# Altium integrated library relay.IntLib: 425 symbols (part 3 of 4)
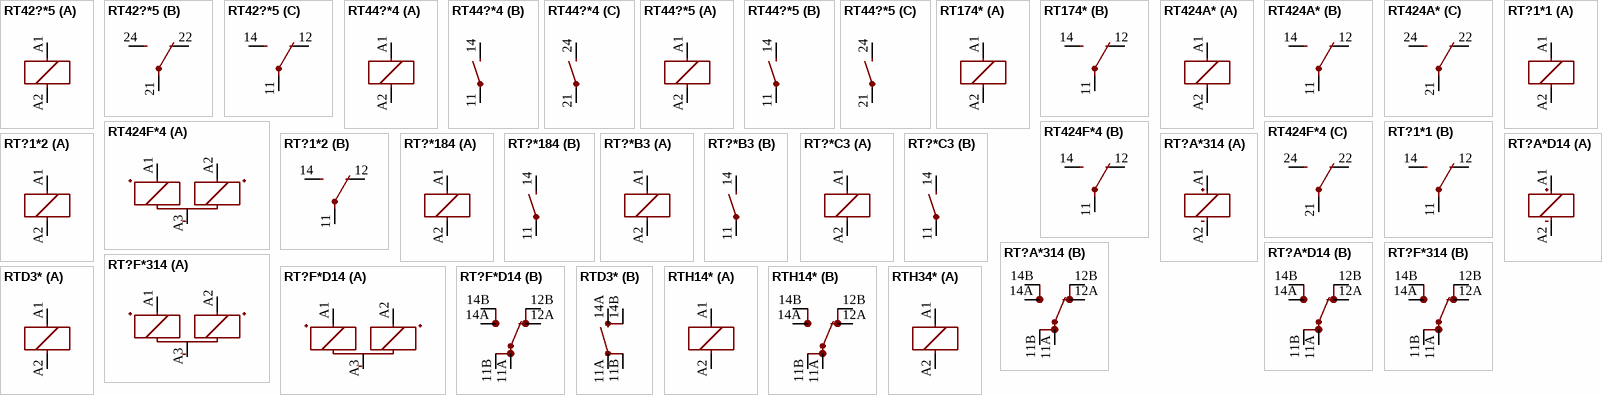
[diagram p32: symbols RT42?*5 to RTH34*]

## RT?1*2
designator K?, comment Power PCB Relayl SCHRACK   1 pole 12 / 16 A, DC- or AC-coi Source: http://www.schrack.com/.. 5819.pdf  (value not drawn)
MPN: RT214006; MPN: RT214012; MPN: RT214024; MPN: RT214048; MPN: RT214110; MPN: RT214524; MPN: RT214615; MPN: RT214730; MF: TYCO ELECTRONICS; OC_FARNELL: unknown; OC_NEWARK: unknown; OC_NEWARK: 08H3734; OC_NEWARK: 48M7937; OC_NEWARK: 08H3735; OC_NEWARK: 16R6362; OC_NEWARK: 16R6363; OC_NEWARK: 50H8104; OC_NEWARK: 93B6578; OC_NEWARK: 08H3736
footprint RT-C/O12A5
part A pins: A1 1, A2 2
part B pins: 11 P, 12 O, 14 S

## RT?*184
designator K?, comment Power PCB Relay SCHRACK   1 pole 12 / 16 A, DC- or AC-coil Source: http://www.schrack.com/.. 5819.pdf  (value not drawn)
MPN: RT184005; MPN: RT184012; MPN: RT184024; MF: TYCO ELECTRONICS; OC_FARNELL: unknown; OC_NEWARK: 08H3730; OC_NEWARK: unknown; OC_NEWARK: 08H3731; OC_NEWARK: 08H3733
footprint RT-N/O12A3.5
part A pins: A1 1, A2 2
part B pins: 11 P, 14 S

## RT?*B3
designator K?, comment Power PCB Relay SCHRACK   1 pole 12 / 16 A, DC- or AC-coil Source: http://www.schrack.com/.. 5819.pdf  (value not drawn)
MPN: RTB34005F; MPN: RTB34012; MPN: RTB34024F; MPN: RTB34730; MF: TYCO ELECTRONICS; OC_FARNELL: unknown; OC_NEWARK: 08H3696; OC_NEWARK: unknown; OC_FARNELL: 9865071; OC_NEWARK: 48M7873; OC_NEWARK: 35K3224; OC_NEWARK: 48M7874
footprint RT-N/O12A3.5
part A pins: A1 1, A2 2
part B pins: 11 P, 14 S

## RT?*C3
designator K?, comment Power PCB Relay SCHRACK   1 pole 12 / 16 A, DC- or AC-coil Source: http://www.schrack.com/.. 5819.pdf  (value not drawn)
OC_FARNELL: unknown; OC_NEWARK: unknown
footprint RT-N/O12A5
part A pins: A1 1, A2 2
part B pins: 11 P, 14 S

## RT?A*314
designator K?, comment Power PCB Relay SCHRACK   bistable 1 pole 16 A, polarized bistable version Source: http://www.schrack.com/.. 5821.pdf  (value not drawn)
MPN: RT314A06; MPN: RT314A12; MPN: RT314A24; MF: TYCO ELECTRONICS; OC_FARNELL: unknown; OC_NEWARK: 48M7945; OC_NEWARK: 08H3738; OC_NEWARK: 08H3739
footprint RT1-BI
part A pins: A1 +, A2 -
part B pins: 11A PA, 11B PB, 12A OA, 12B OB, 14A SA, 14B SB

## RT?A*D14
designator K?, comment Power PCB Relay SCHRACK   bistable 1 pole 16 A, polarized bistable version Source: http://www.schrack.com/.. 5821.pdf  (value not drawn)
OC_FARNELL: unknown; OC_NEWARK: unknown
footprint RT1-BI
part A pins: A1 +, A2 -
part B pins: 11A PA, 11B PB, 12A OA, 12B OB, 14A SA, 14B SB

## RT?F*314
designator K?, comment Power PCB Relay SCHRACK   bistable 1 pole 16 A, polarized bistable version Source: http://www.schrack.com/.. 5821.pdf  (value not drawn)
MPN: RT314F05; MPN: RT314F12; MPN: RT314F24; OC_FARNELL: unknown; OC_NEWARK: 48M7949; OC_NEWARK: unknown; OC_NEWARK: 26M2701; OC_FARNELL: 1175084; OC_NEWARK: 31M5918
footprint RT1-BI
part A pins: A1 S+, A2 R+, A3 -
part B pins: 11A PA, 11B PB, 12A OA, 12B OB, 14A SA, 14B SB

## RT?F*D14
designator K?, comment Power PCB Relay SCHRACK   bistable 1 pole 16 A, polarized bistable version Source: http://www.schrack.com/.. 5821.pdf  (value not drawn)
OC_FARNELL: unknown; OC_NEWARK: unknown
footprint RT1-BI
part A pins: A1 S+, A2 R+, A3 -
part B pins: 11A PA, 11B PB, 12A OA, 12B OB, 14A SA, 14B SB

## RTD3*
designator K?, comment Power PCB Relay SCHRACK   1 pole 12 / 16 A, DC- or AC-coil Source: http://www.schrack.com/.. 5819.pdf  (value not drawn)
MPN: RTD34005; MPN: RTD34012F; MPN: RTD34024F; MPN: RTD34048; MPN: RTD34615; MPN: RTD34730; MF: TYCO ELECTRONICS; OC_FARNELL: unknown; OC_NEWARK: 93B4654; OC_NEWARK: unknown; OC_NEWARK: 36K3470; OC_FARNELL: 9850961; OC_NEWARK: 34K0187; OC_NEWARK: 08H3709; OC_NEWARK: 48F1293; OC_NEWARK: 85C1167
footprint RT-N/O16A5
part A pins: A1 1, A2 2
part B pins: 11A PA, 11B PB, 14A SA, 14B SB

## RTH14*
designator K?, comment Power PCB Relay 105Â°C 16A SCHRACK   1 pole 16 A, high-temperature version Source: http://www.schrack.com/.. 5831.pdf  (value not drawn)
MPN: RTH14012; MPN: 7-1415025-1; MF: TYCO ELECTRONICS; OC_FARNELL: unknown; OC_NEWARK: unknown; OC_FARNELL: 1629018; OC_NEWARK: 03P2408; OC_NEWARK: 16H4440
footprint RT-C/O16A5
part A pins: A1 1, A2 2
part B pins: 11A PA, 11B PB, 12A OA, 12B OB, 14A SA, 14B SB

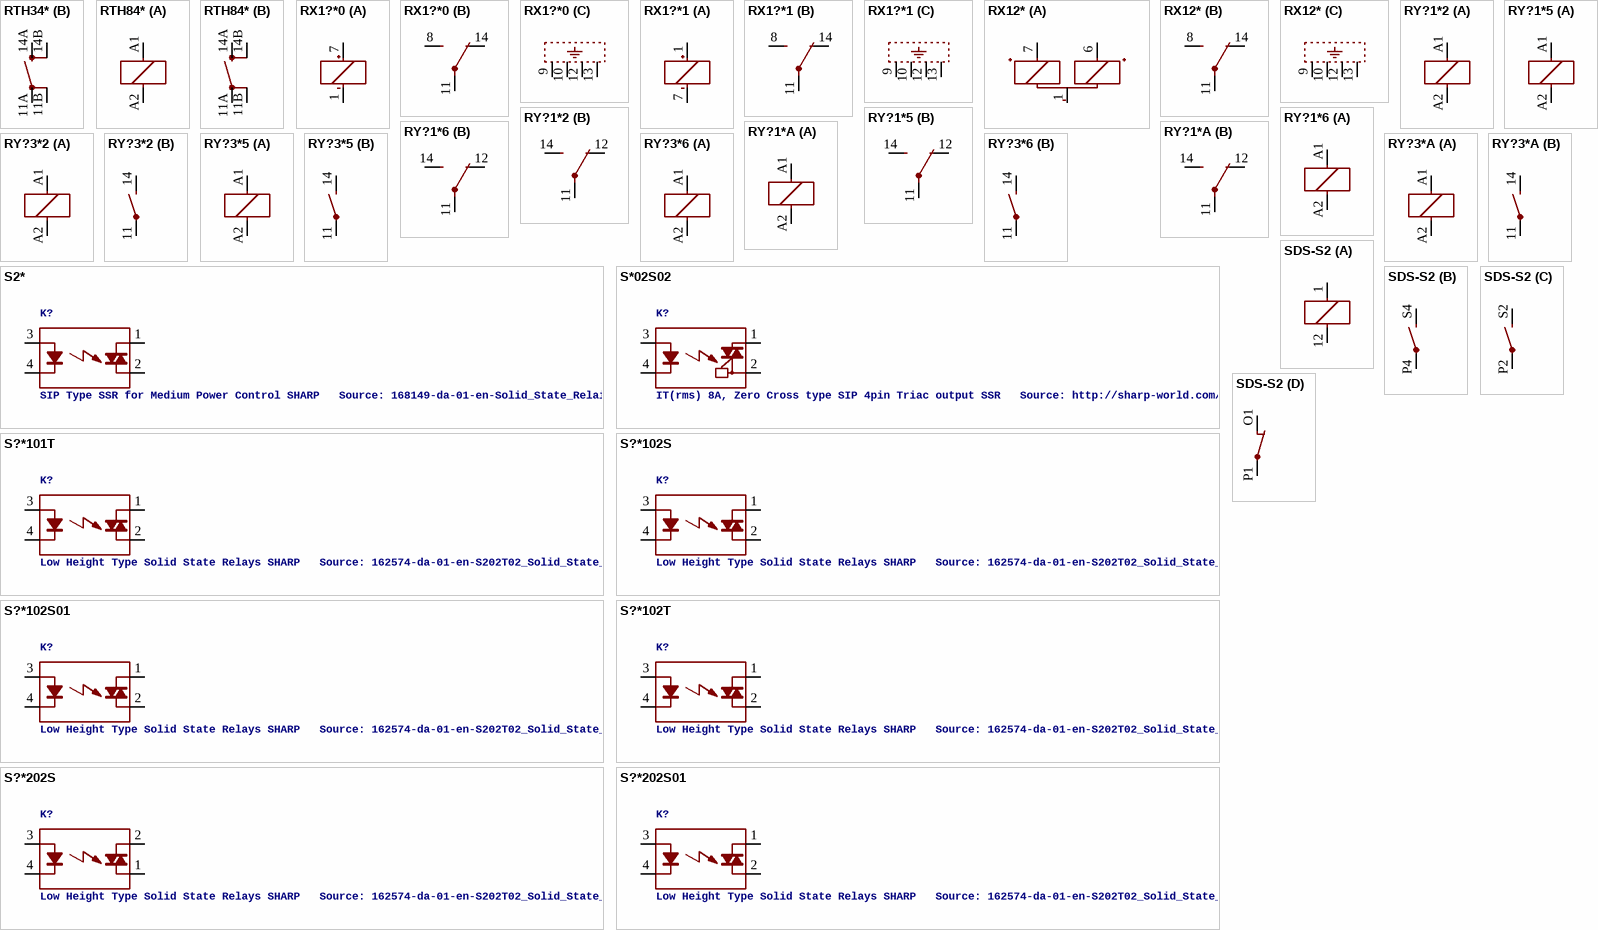
[diagram p21: symbols RTH34* to SDS-S2]

## RTH34*
designator K?, comment Power PCB Relay 105Â°C 16A SCHRACK   1 pole 16 A, high-temperature version Source: http://www.schrack.com/.. 5831.pdf  (value not drawn)
MPN: RTH34012; MPN: RTH34024; OC_FARNELL: unknown; OC_NEWARK: unknown; OC_NEWARK: 45K1533; OC_NEWARK: 45K1534
footprint RT-N/O16A5
part A pins: A1 1, A2 2
part B pins: 11A PA, 11B PB, 14A SA, 14B SB

## RTH84*
designator K?, comment Power PCB Relay 105Â°C sensitive SCHRACK   1 pole 10 A, high-temperature version Source: http://www.schrack.com/.. 5828.pdf  (value not drawn)
OC_FARNELL: unknown; OC_NEWARK: unknown
footprint RT-N/O16A5
part A pins: A1 1, A2 2
part B pins: 11A PA, 11B PB, 14A SA, 14B SB

## RX1?*0
designator K?, comment SMALL MICRO WAVE RELAY NAiS   Source: http://www.mew-europe.com/.. en_ds_61307_0000.pdf  (value not drawn)
OC_FARNELL: unknown; OC_NEWARK: unknown
footprint RX
part A pins: 1 -, 7 +
part B pins: 8 S, 11 P, 14 O
part C pins: 9 SH@1, 10 SH@2, 12 SH@3, 13 SH@4

## RX1?*1
designator K?, comment SMALL MICRO WAVE RELAY NAiS   Source: http://www.mew-europe.com/.. en_ds_61307_0000.pdf  (value not drawn)
OC_FARNELL: unknown; OC_NEWARK: unknown
footprint RX
part A pins: 1 +, 7 -
part B pins: 8 S, 11 P, 14 O
part C pins: 9 SH@1, 10 SH@2, 12 SH@3, 13 SH@4

## RX12*
designator K?, comment SMALL MICRO WAVE RELAY NAiS   Source: http://www.mew-europe.com/.. en_ds_61307_0000.pdf  (value not drawn)
OC_FARNELL: unknown; OC_NEWARK: unknown
footprint RX2
part A pins: 1 -, 6 R+, 7 S+
part B pins: 8 S, 11 P, 14 O
part C pins: 9 SH@1, 10 SH@2, 12 SH@3, 13 SH@4

## RY?1*2
designator K?, comment Miniature Power PCB Relay SCHRACK   1 pole 8 A Source: http://www.schrack.com/.. 5817.pdf  (value not drawn)
MPN: RY210005; MPN: RY210006; MPN: RY210012; MPN: RY210024; MPN: RY210048; MPN: RY211005; MPN: 4-1393224-3; MPN: RY211012R; MPN: RY211024; MPN: RY211048; MPN: RY212005; MPN: RY212012; MPN: RY212024; MPN: RY213012; MPN: RY213024; MF: TYCO ELECTRONICS; OC_FARNELL: unknown; OC_NEWARK: 08H3762; OC_NEWARK: 08H3763; OC_FARNELL: 1652614; OC_NEWARK: 18C5386; OC_FARNELL: 1652615; OC_NEWARK: 17M1790; OC_NEWARK: 08H3765; OC_FARNELL: 1629032; OC_NEWARK: 16R6445; OC_NEWARK: 13H3089; OC_FARNELL: 1629033; OC_NEWARK: 03P2440; OC_FARNELL: 1629034; OC_NEWARK: 08H3766; OC_NEWARK: 48M8018; OC_NEWARK: 48M8019; OC_NEWARK: unknown; OC_NEWARK: 48M8020; OC_NEWARK: 48M8021; OC_NEWARK: 16R6446; OC_NEWARK: 59P3026
footprint RY-II
part A pins: A1 1, A2 2
part B pins: 11 P, 12 O, 14 S

## RY?1*5
designator K?, comment Miniature Power PCB Relay SCHRACK   1 pole 8 A Source: http://www.schrack.com/.. 5817.pdf  (value not drawn)
OC_FARNELL: unknown; OC_NEWARK: unknown
footprint RY-II
part A pins: A1 1, A2 2
part B pins: 11 P, 12 O, 14 S

## RY?1*6
designator K?, comment Miniature Power PCB Relay SCHRACK   1 pole 8 A Source: http://www.schrack.com/.. 5817.pdf  (value not drawn)
MPN: RY610005; MPN: RY610012; MPN: RY610024; MPN: RY610048; MPN: RY611005; MPN: RY611012; MPN: RY611024; MPN: RY611048; MPN: RY612005; MPN: RY612012; MPN: RY612024; MPN: RY612048; MPN: RY613005; MPN: RY613012; MPN: RY613024; MF: TYCO ELECTRONICS; OC_FARNELL: 515863; OC_NEWARK: 48F5539; OC_FARNELL: unknown; OC_NEWARK: unknown; OC_FARNELL: 515875; OC_NEWARK: 52F1002; OC_FARNELL: 515887; OC_NEWARK: 52F1003; OC_NEWARK: 08H3773; OC_FARNELL: 9659706; OC_NEWARK: 97K9204; OC_FARNELL: 9659714; OC_NEWARK: 97K9205; OC_FARNELL: 9659722; OC_NEWARK: 29C5433; OC_NEWARK: 08H3777; OC_NEWARK: 48M8046; OC_NEWARK: 96B4867; OC_FARNELL: 1703736; OC_NEWARK: 89C3213; OC_NEWARK: 73C7516; OC_NEWARK: 16R6452; OC_NEWARK: 29M8966; OC_NEWARK: 48M8052
footprint RY-II
part A pins: A1 1, A2 2
part B pins: 11 P, 12 O, 14 S

## RY?1*A
designator K?, comment Miniature Power PCB Relay SCHRACK   1 pole 8 A Source: http://www.schrack.com/.. 5817.pdf  (value not drawn)
OC_FARNELL: unknown; OC_NEWARK: unknown
footprint RY-II
part A pins: A1 1, A2 2
part B pins: 11 P, 12 O, 14 S

## RY?3*2
designator K?, comment Miniature Power PCB Relay SCHRACK   1 pole 8 A Source: http://www.schrack.com/.. 5817.pdf  (value not drawn)
MPN: RY230048; OC_FARNELL: unknown; OC_NEWARK: unknown; OC_NEWARK: 48M8022
footprint RY-II1
part A pins: A1 1, A2 2
part B pins: 11 P, 14 S

## RY?3*5
designator K?, comment Miniature Power PCB Relay SCHRACK   1 pole 8 A Source: http://www.schrack.com/.. 5817.pdf  (value not drawn)
MPN: RY530005; MPN: RY530006; MPN: RY530012; MPN: RY530024; MPN: RY530048; MPN: RY531005; MPN: RY531012; MPN: RY531024; MPN: RY532012; MPN: RY532024; MPN: RY533012; MPN: RY533024; MPN: RY900016(RY533048); MF: TYCO ELECTRONICS; OC_FARNELL: unknown; OC_NEWARK: 48M8023; OC_NEWARK: 48M8024; OC_NEWARK: 48M8025; OC_NEWARK: 48M8027; OC_NEWARK: 08H3770; OC_NEWARK: 48M8029; OC_NEWARK: unknown; OC_NEWARK: 16R6447; OC_NEWARK: 16R6448; OC_NEWARK: 48M8031; OC_NEWARK: 16R6449; OC_NEWARK: 48M8033; OC_NEWARK: 16R6450; OC_NEWARK: 48M8055
footprint RY-II1
part A pins: A1 1, A2 2
part B pins: 11 P, 14 S

## RY?3*6
designator K?, comment Miniature Power PCB Relay SCHRACK   1 pole 8 A Source: http://www.schrack.com/.. 5817.pdf  (value not drawn)
OC_FARNELL: unknown; OC_NEWARK: unknown
footprint RY-II1
part A pins: A1 1, A2 2
part B pins: 11 P, 14 S

## RY?3*A
designator K?, comment Miniature Power PCB Relay SCHRACK   1 pole 8 A Source: http://www.schrack.com/.. 5817.pdf  (value not drawn)
MPN: RYA30005; MPN: RYA30006; MPN: RYA30012; MPN: RYA30024; MPN: RYA31005; MPN: RYA31012; MPN: RYA31024; MPN: RYA31048; MPN: RYA32005; MPN: RYA32012; MF: TYCO ELECTRONICS; OC_FARNELL: unknown; OC_NEWARK: 48M7996; OC_NEWARK: 08H3758; OC_NEWARK: 89M6563; OC_NEWARK: 52F1005; OC_NEWARK: unknown; OC_FARNELL: 9659730; OC_NEWARK: 97K9200; OC_FARNELL: 9659749; OC_NEWARK: 97K9201; OC_FARNELL: 9659757; OC_NEWARK: 97K9202; OC_NEWARK: 16R6440; OC_NEWARK: 08H3760; OC_NEWARK: 16R6441
footprint RY-II1
part A pins: A1 1, A2 2
part B pins: 11 P, 14 S

## S2*
designator K?, comment SIP Type SSR for Medium Power Control SHARP   Source: 168149-da-01-en-Solid_State_Relais_S_202_SE1_SE2.pdf
OC_FARNELL: unknown; OC_NEWARK: unknown
footprint S2XXEX
pins: 1 DS1, 2 DS2, 3 A, 4 K

## S*02S02
designator K?, comment IT(rms) 8A, Zero Cross type SIP 4pin Triac output SSR   Source: http://sharp-world.com/products/device/lineup/data/pdf/datasheet/s102s02_e.pdf
MPN: S202S02F; OC_FARNELL: unknown; OC_NEWARK: unknown; OC_FARNELL: 1618475; OC_NEWARK: 14N9588
footprint S202S02
pins: 1 DS1, 2 DS2, 3 A, 4 K

## S?*101T
designator K?, comment Low Height Type Solid State Relays SHARP   Source: 162574-da-01-en-S202T02_Solid_State_Relais.pdf Source: http://sharp-world.com .. s102s11_e.pdf
OC_FARNELL: unknown; OC_NEWARK: unknown
footprint S102T0X
pins: 1 DS1, 2 DS2, 3 A, 4 K

## S?*102S
designator K?, comment Low Height Type Solid State Relays SHARP   Source: 162574-da-01-en-S202T02_Solid_State_Relais.pdf Source: http://sharp-world.com .. s102s11_e.pdf
OC_FARNELL: unknown; OC_NEWARK: unknown
footprint S2XXEX
pins: 1 DS1, 2 DS2, 3 A, 4 K

## S?*102S01
designator K?, comment Low Height Type Solid State Relays SHARP   Source: 162574-da-01-en-S202T02_Solid_State_Relais.pdf Source: http://sharp-world.com .. s102s11_e.pdf
OC_FARNELL: unknown; OC_NEWARK: unknown
footprint S102S01
pins: 1 DS1, 2 DS2, 3 A, 4 K

## S?*102T
designator K?, comment Low Height Type Solid State Relays SHARP   Source: 162574-da-01-en-S202T02_Solid_State_Relais.pdf Source: http://sharp-world.com .. s102s11_e.pdf
OC_FARNELL: unknown; OC_NEWARK: unknown
footprint S102T0X
pins: 1 DS1, 2 DS2, 3 A, 4 K

## S?*202S
designator K?, comment Low Height Type Solid State Relays SHARP   Source: 162574-da-01-en-S202T02_Solid_State_Relais.pdf Source: http://sharp-world.com .. s102s11_e.pdf
OC_FARNELL: unknown; OC_NEWARK: unknown
footprint S2XXEX
pins: 1 DS2, 2 DS1, 3 A, 4 K

## S?*202S01
designator K?, comment Low Height Type Solid State Relays SHARP   Source: 162574-da-01-en-S202T02_Solid_State_Relais.pdf Source: http://sharp-world.com .. s102s11_e.pdf
MPN: S202S01F; OC_FARNELL: 1618474; OC_NEWARK: 14N9587
footprint S102S01
pins: 1 DS1, 2 DS2, 3 A, 4 K

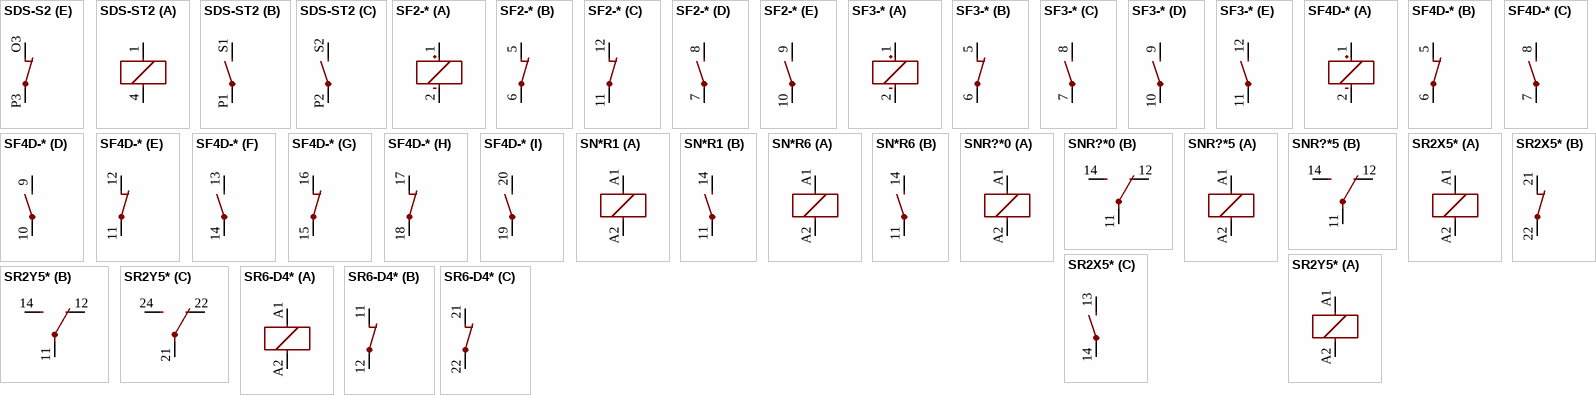
[diagram p22: symbols SDS-S2 to SR6-D4*]

## SDS-S2
designator K?, comment RELAY   monostable, 2 x norm. open, 2 x norm. closed, 5 A/250 V AC/DC, NAiS  (value not drawn)
OC_FARNELL: unknown; OC_NEWARK: unknown
footprint SDS-S2
part A pins: 1, 12 2
part B pins: P4 P, S4 S
part C pins: P2 P, S2 S
part D pins: O1 O, P1 P
part E pins: O3 O, P3 P

## SDS-ST2
designator K?, comment RELAY   polarity, 2 x norm. open, NAiS  (value not drawn)
OC_FARNELL: unknown; OC_NEWARK: unknown
footprint SDS-ST2
part A pins: 1, 4 2
part B pins: P1 P, S1 S
part C pins: P2 P, S2 S

## SF2-*
designator K?, comment POLARISED, MONOSTABLE RELAY WITH FORCIBLY GUIDED CONTACTS NAiS   Source: http://www.mew-europe.com/.. en_ds_61404_0001.pdf  (value not drawn)
MPN: SF2-12V; MPN: SF2-24V; MF: FARNELL; OC_FARNELL: 625875; OC_NEWARK: 68C0655; OC_FARNELL: unknown; OC_NEWARK: unknown; OC_FARNELL: 1124064; OC_NEWARK: 31M0404
footprint SF2
part A pins: 1 +, 2 -
part B pins: 5 O, 6 P
part C pins: 11 P, 12 O
part D pins: 7 P, 8 S
part E pins: 9 S, 10 P

## SF3-*
designator K?, comment POLARISED, MONOSTABLE RELAY WITH FORCIBLY GUIDED CONTACTS NAiS   Source: http://www.mew-europe.com/.. en_ds_61404_0001.pdf  (value not drawn)
OC_FARNELL: unknown; OC_NEWARK: unknown
footprint SF2
part A pins: 1 +, 2 -
part B pins: 5 O, 6 P
part C pins: 7 P, 8 S
part D pins: 9 S, 10 P
part E pins: 11 P, 12 S

## SF4D-*
designator K?, comment POLARISED, MONOSTABLE RELAY WITH FORCIBLY GUIDED DOUBLE CONTACTS NAiS   Source: http://www.mew-europe.com/.. en_ds_61407_0002.pdf  (value not drawn)
OC_FARNELL: unknown; OC_NEWARK: unknown
footprint SF4D
part A pins: 1 +, 2 -
part B pins: 5 O, 6 P
part C pins: 7 P, 8 S
part D pins: 9 S, 10 P
part E pins: 11 P, 12 O
part F pins: 13 S, 14 P
part G pins: 15 P, 16 O
part H pins: 17 O, 18 P
part I pins: 19 P, 20 S

## SN*R1
designator K?, comment Slim PCB Relay 1 pole 6 A SCHRACK   Source: http://www.schrack.com/.. 5815.pdf  (value not drawn)
OC_FARNELL: unknown; OC_NEWARK: unknown
footprint SNR-V1
part A pins: A1 1, A2 2
part B pins: 11 P, 14 S

## SN*R6
designator K?, comment Slim PCB Relay 1 pole 6 A SCHRACK   Source: http://www.schrack.com/.. 5815.pdf  (value not drawn)
OC_FARNELL: unknown; OC_NEWARK: unknown
footprint SNR-H6
part A pins: A1 1, A2 2
part B pins: 11 P, 14 S

## SNR?*0
designator K?, comment Slim PCB Relay 1 pole 6 A SCHRACK   Source: http://www.schrack.com/.. 5815.pdf  (value not drawn)
OC_FARNELL: unknown; OC_NEWARK: unknown
footprint SNR-V
part A pins: A1 1, A2 2
part B pins: 11 P, 12 O, 14 S

## SNR?*5
designator K?, comment Slim PCB Relay 1 pole 6 A SCHRACK   Source: http://www.schrack.com/.. 5815.pdf  (value not drawn)
OC_FARNELL: unknown; OC_NEWARK: unknown
footprint SNR-H
part A pins: A1 1, A2 2
part B pins: 11 P, 12 O, 14 S

## SR2X5*
designator K?, comment Safety Relay 2 pole 6 A SCHRACK   Source: http://www.schrack.com/.. 5809.pdf  (value not drawn)
OC_FARNELL: unknown; OC_NEWARK: unknown
footprint SR2X
part A pins: A1 1, A2 2
part B pins: 21 O, 22 P
part C pins: 13 S, 14 P

## SR2Y5*
designator K?, comment Safety Relay 2 pole 6 A SCHRACK   Source: http://www.schrack.com/.. 5809.pdf  (value not drawn)
OC_FARNELL: unknown; OC_NEWARK: unknown
footprint SR2Y
part A pins: A1 1, A2 2
part B pins: 11 P, 12 O, 14 S
part C pins: 21 P, 22 O, 24 S

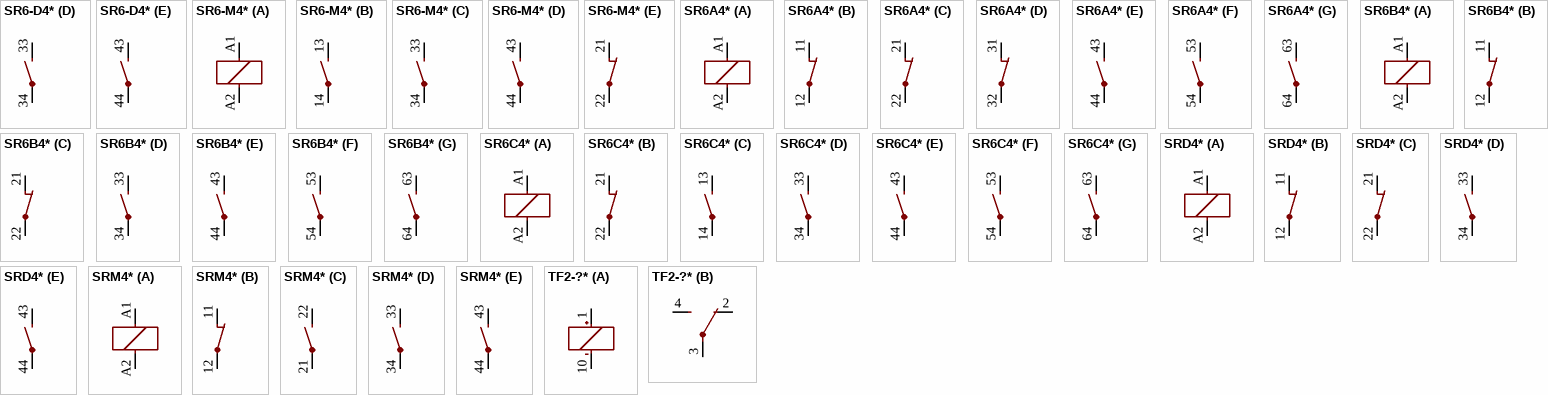
[diagram p23: symbols SR6-D4* to TF2-?*]

## SR6-D4*
designator K?, comment Safety Relay 4 pole 8 A SCHRACK   2 N/O contact and 2 N/C contact Source: http://www.schrack.com/.. 5814.pdf  (value not drawn)
MPN: SR6D4012; MPN: SR6D4024; MPN: SR6D4110; OC_FARNELL: unknown; OC_NEWARK: unknown; OC_FARNELL: 1770622; OC_NEWARK: 51R7440; OC_FARNELL: 1770623; OC_NEWARK: 51R7441; OC_NEWARK: 16R7721
footprint SR6-D
part A pins: A1 1, A2 2
part B pins: 11 O, 12 P
part C pins: 21 O, 22 P
part D pins: 33 S, 34 P
part E pins: 43 S, 44 P

## SR6-M4*
designator K?, comment Safety Relay 4 pole 8 A SCHRACK   3 N/O contact and 1 N/C contact Source: http://www.schrack.com/.. 5814.pdf  (value not drawn)
MPN: SR6M4012; MPN: SR6M4024; OC_FARNELL: unknown; OC_NEWARK: unknown; OC_FARNELL: 1770624; OC_NEWARK: 51R7442; OC_FARNELL: 1770625; OC_NEWARK: 51R7443
footprint SR6-M
part A pins: A1 1, A2 2
part B pins: 13 S, 14 P
part C pins: 33 S, 34 P
part D pins: 43 S, 44 P
part E pins: 21 O, 22 P

## SR6A4*
designator K?, comment Safety Relay SR6 SCHRACK   sensitive 6 pole 8 A Source: http://www.schrack.com/.. 6688.pdf  (value not drawn)
OC_FARNELL: unknown; OC_NEWARK: unknown
footprint SR6A
part A pins: A1 1, A2 2
part B pins: 11 O, 12 P
part C pins: 21 O, 22 P
part D pins: 31 O, 32 P
part E pins: 43 S, 44 P
part F pins: 53 S, 54 P
part G pins: 63 S, 64 P

## SR6B4*
designator K?, comment Safety Relay SR6 SCHRACK   sensitive 6 pole 8 A Source: http://www.schrack.com/.. 6688.pdf  (value not drawn)
OC_FARNELL: unknown; OC_NEWARK: unknown
footprint SR6B
part A pins: A1 1, A2 2
part B pins: 11 O, 12 P
part C pins: 21 O, 22 P
part D pins: 33 S, 34 P
part E pins: 43 S, 44 P
part F pins: 53 S, 54 P
part G pins: 63 S, 64 P

## SR6C4*
designator K?, comment Safety Relay SR6 SCHRACK   sensitive 6 pole 8 A Source: http://www.schrack.com/.. 6688.pdf  (value not drawn)
OC_FARNELL: unknown; OC_NEWARK: unknown
footprint SR6C
part A pins: A1 1, A2 2
part B pins: 21 O, 22 P
part C pins: 13 S, 14 P
part D pins: 33 S, 34 P
part E pins: 43 S, 44 P
part F pins: 53 S, 54 P
part G pins: 63 S, 64 P

## SRD4*
designator K?, comment Safety Relay SCHRACK   4 pole 8 A Source: http://www.schrack.com/.. 6685.pdf  (value not drawn)
OC_FARNELL: unknown; OC_NEWARK: unknown
footprint SR4
part A pins: A1 1, A2 2
part B pins: 11 O, 12 P
part C pins: 21 O, 22 P
part D pins: 33 S, 34 P
part E pins: 43 S, 44 P

## SRM4*
designator K?, comment Safety Relay SCHRACK   4 pole 8 A Source: http://www.schrack.com/.. 6685.pdf  (value not drawn)
OC_FARNELL: unknown; OC_NEWARK: unknown
footprint SR4
part A pins: A1 1, A2 2
part B pins: 11 O, 12 P
part C pins: 21 P, 22 S
part D pins: 33 S, 34 P
part E pins: 43 S, 44 P

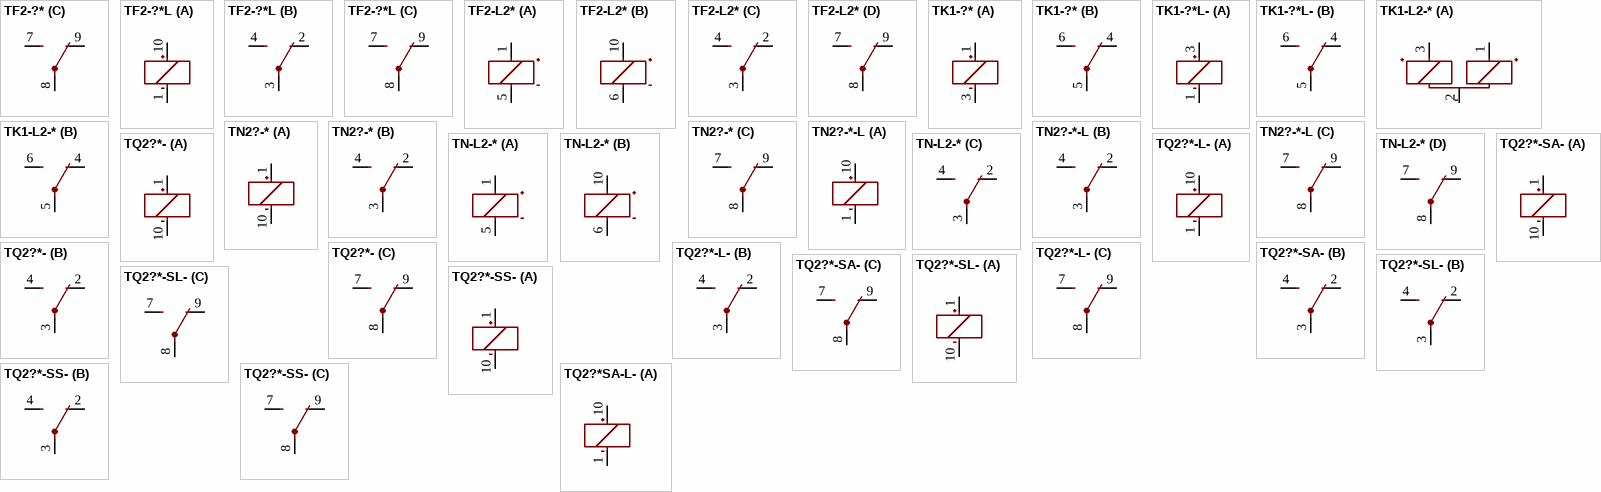
[diagram p24: symbols TF2-?* to TQ2?*SA-L-]

## TF2-?*
designator K?, comment SMALL POLARIZED RELAY WITH HIGH SENSITIVITY NAiS   Source: http://www.mew-europe.com/..  en_ds_61017_0000.pdf  (value not drawn)
OC_FARNELL: unknown; OC_NEWARK: unknown
footprint TF2
part A pins: 1 +, 10 -
part B pins: 2 O, 3 P, 4 S
part C pins: 7 S, 8 P, 9 O

## TF2-?*L
designator K?, comment SMALL POLARIZED RELAY WITH HIGH SENSITIVITY NAiS   Source: http://www.mew-europe.com/..  en_ds_61017_0000.pdf  (value not drawn)
OC_FARNELL: 846004; OC_NEWARK: unknown; OC_FARNELL: unknown
footprint TF2
part A pins: 1 -, 10 +
part B pins: 2 O, 3 P, 4 S
part C pins: 7 S, 8 P, 9 O

## TF2-L2*
designator K?, comment SMALL POLARIZED RELAY WITH HIGH SENSITIVITY NAiS   2 coil latching Source: http://www.mew-europe.com/..  en_ds_61017_0000.pdf  (value not drawn)
OC_FARNELL: unknown; OC_NEWARK: unknown
footprint TF2
part A pins: 1 +, 5 -
part B pins: 6 -, 10 +
part C pins: 2 O, 3 P, 4 S
part D pins: 7 S, 8 P, 9 O

## TK1-?*
designator K?, comment ULTRA LOW PROFILE 2 AMP. POLARIZED RELAY NAiS   Source: http://www.mew-europe.com/..  en_ds_61018_0000.pdf  (value not drawn)
MPN: TK1-12V; MPN: TK1-24V; MPN: TK1-3V; MPN: TK1-4.5V; MPN: TK1-5V; MPN: TK1-6V; MPN: TK1-9V; MF: AROMAT/ MATSUSHITA; OC_FARNELL: unknown; OC_NEWARK: unknown; OC_FARNELL: 1380961; OC_NEWARK: 67K1254; OC_NEWARK: 64K3182; OC_NEWARK: 13P9053; OC_NEWARK: 13P9054; OC_FARNELL: 1380960; OC_NEWARK: 64K3183; OC_NEWARK: 13P9056; OC_NEWARK: 10C9734
footprint TK
part A pins: 1 +, 3 -
part B pins: 4 O, 5 P, 6 S

## TK1-?*L-
designator K?, comment ULTRA LOW PROFILE 2 AMP. POLARIZED RELAY NAiS   Source: http://www.mew-europe.com/..  en_ds_61018_0000.pdf  (value not drawn)
MPN: TK1-L-1.5V; MPN: TK1-L-12V; MPN: TK1-L-3V; MPN: TK1-L-5V; MPN: TK1-L-6V; MF: AROMAT/ MATSUSHITA; OC_FARNELL: unknown; OC_NEWARK: 10C9715; OC_NEWARK: 15P9750; OC_NEWARK: unknown; OC_NEWARK: 10C9718; OC_NEWARK: 10C9720; OC_NEWARK: 13P9050
footprint TK
part A pins: 1 -, 3 +
part B pins: 4 O, 5 P, 6 S

## TK1-L2-*
designator K?, comment ULTRA LOW PROFILE 2 AMP. POLARIZED RELAY NAiS   2 coil latching Source: http://www.mew-europe.com/..  en_ds_61018_0000.pdf  (value not drawn)
MPN: TK1-L2-12V; MPN: TK1-L2-24V; MPN: TK1-L2-3V; MPN: TK1-L2-4.5V; MPN: TK1-L2-5V; OC_FARNELL: unknown; OC_NEWARK: unknown; OC_NEWARK: 15P9751; OC_NEWARK: 15P9752; OC_NEWARK: 15P9753; OC_NEWARK: 15P9754; OC_NEWARK: 15P9755
footprint TK
part A pins: 1 R+, 2 -, 3 S+
part B pins: 4 O, 5 P, 6 S

## TN2?-*
designator K?, comment SLIM POLARIZED RELAY NAiS   Source: http://www.mew-europe.com/..  en_ds_61019_0000.pdf  (value not drawn)
MPN: TN2-12V; MPN: TN2-24V; MPN: TN2-3V; MPN: TN2-4.5V; MPN: TN2-48V; MPN: TN2-5V; MPN: TN2-6V; MPN: TN2-9V; MF: AROMAT/ MATSUSHITA; OC_FARNELL: 1200956; OC_NEWARK: 65K1079; OC_FARNELL: 910405; OC_NEWARK: 64K3187; OC_FARNELL: unknown; OC_NEWARK: 90F3177; OC_FARNELL: 1231845; OC_NEWARK: 64K3188; OC_NEWARK: 13P9184; OC_FARNELL: 1200955; OC_NEWARK: 64K3189; OC_NEWARK: 90F3180; OC_NEWARK: 90F3181
footprint TN2
part A pins: 1 +, 10 -
part B pins: 2 O, 3 P, 4 S
part C pins: 7 S, 8 P, 9 O

## TN2?-*-L
designator K?, comment SLIM POLARIZED RELAY NAiS   Source: http://www.mew-europe.com/..  en_ds_61019_0000.pdf  (value not drawn)
MPN: TN2-L-12V; MPN: TN2-L-3V; MPN: TN2-L-4.5V; MPN: TN2-L-6V; MF: AROMAT/ MATSUSHITA; OC_FARNELL: unknown; OC_NEWARK: 90F3171; OC_NEWARK: unknown; OC_NEWARK: 90F3184; OC_NEWARK: 15P9757; OC_NEWARK: 90F3169
footprint TN2
part A pins: 1 -, 10 +
part B pins: 2 O, 3 P, 4 S
part C pins: 7 S, 8 P, 9 O

## TN-L2-*
designator K?, comment SLIM POLARIZED RELAY NAiS   2 coil latched Source: http://www.mew-europe.com/..  en_ds_61019_0000.pdf  (value not drawn)
OC_FARNELL: unknown; OC_NEWARK: unknown
footprint TN2
part A pins: 1 +, 5 -
part B pins: 6 -, 10 +
part C pins: 2 O, 3 P, 4 S
part D pins: 7 S, 8 P, 9 O

## TQ2?*-
designator K?, comment LOW PROFILE 2 FORM C RELAY NAiS   Source: http://www.mew-europe.com/..  en_ds_61020_0001.pdf Source: http://www.mew-europe.com/..  en_ds_61020_0004.pdf  (value not drawn)
MPN: TQ2-12V; MPN: TQ2-24V; MPN: TQ2-3V; MPN: TQ2-4.5V; MPN: TQ2-48V; MPN: TQ2-5V; MPN: TQ2-6V; MPN: TQ2-9V; MF: AROMAT/ MATSUSHITA; OC_FARNELL: 1200949; OC_NEWARK: 64K3197; OC_FARNELL: 1175717; OC_NEWARK: 64K3198; OC_FARNELL: 1703746; OC_NEWARK: 73K2455; OC_FARNELL: 1163566; OC_NEWARK: 64K3199; OC_FARNELL: unknown; OC_NEWARK: 13P9197; OC_FARNELL: 1175716; OC_NEWARK: 64K3200; OC_NEWARK: 64K3201; OC_NEWARK: 13P9201
footprint TQ2
part A pins: 1 +, 10 -
part B pins: 2 O, 3 P, 4 S
part C pins: 7 S, 8 P, 9 O

## TQ2?*-L-
designator K?, comment LOW PROFILE 2 FORM C RELAY NAiS   Source: http://www.mew-europe.com/..  en_ds_61020_0001.pdf Source: http://www.mew-europe.com/..  en_ds_61020_0004.pdf  (value not drawn)
MPN: TQ2-L-12V; MPN: TQ2-L-3V; MPN: TQ2-L-4.5V; MPN: TQ2-L-5V; MF: AROMAT/ MATSUSHITA; OC_FARNELL: unknown; OC_NEWARK: 64K3190; OC_NEWARK: unknown; OC_NEWARK: 87F3168; OC_NEWARK: 15P9767; OC_FARNELL: 1448361; OC_NEWARK: 64K3191
footprint TQ2
part A pins: 1 -, 10 +
part B pins: 2 O, 3 P, 4 S
part C pins: 7 S, 8 P, 9 O

## TQ2?*-SA-
designator K?, comment LOW PROFILE 2 FORM C RELAY NAiS   Source: http://www.mew-europe.com/..  en_ds_61020_0001.pdf Source: http://www.mew-europe.com/..  en_ds_61020_0004.pdf  (value not drawn)
MPN: TQ2SA-1.5V-Z; MPN: TQ2SA-12V; MPN: TQ2SA-24V; MPN: TQ2SA-3V; MPN: TQ2SA-4.5V; MPN: TQ2SA-48V; MPN: TQ2SA-5V; MPN: TQ2SA-6V; MPN: TQ2SA-9V; MF: AROMAT/ MATSUSHITA; OC_FARNELL: unknown; OC_NEWARK: 13P9205; OC_FARNELL: 1124056; OC_NEWARK: 64K3203; OC_NEWARK: 13P9208; OC_NEWARK: 10C9847; OC_NEWARK: 92B3979; OC_NEWARK: 13P9215; OC_FARNELL: 1124054; OC_NEWARK: 64K3205; OC_NEWARK: 13P9219; OC_NEWARK: 13P9220
footprint TQ-SA
part A pins: 1 +, 10 -
part B pins: 2 O, 3 P, 4 S
part C pins: 7 S, 8 P, 9 O

## TQ2?*-SL-
designator K?, comment LOW PROFILE 2 FORM C RELAY NAiS   Source: http://www.mew-europe.com/..  en_ds_61020_0001.pdf Source: http://www.mew-europe.com/..  en_ds_61020_0004.pdf  (value not drawn)
MPN: TQ2SL-12V; MPN: TQ2SL-24V; MPN: TQ2SL-3V; MPN: TQ2SL-5V; OC_FARNELL: unknown; OC_NEWARK: unknown; OC_NEWARK: 13P9222; OC_NEWARK: 13P9224; OC_NEWARK: 13P9226; OC_NEWARK: 13P9228
footprint TQ-SL
part A pins: 1 +, 10 -
part B pins: 2 O, 3 P, 4 S
part C pins: 7 S, 8 P, 9 O

## TQ2?*-SS-
designator K?, comment LOW PROFILE 2 FORM C RELAY NAiS   Source: http://www.mew-europe.com/..  en_ds_61020_0001.pdf Source: http://www.mew-europe.com/..  en_ds_61020_0004.pdf  (value not drawn)
MPN: TQ2SS-1.5V; MPN: TQ2SS-12V; MPN: TQ2SS-24V-Z; MPN: TQ2SS-3V; MPN: TQ2SS-4.5V; MPN: TQ2SS-48V; MPN: TQ2SS-5V; MF: AROMAT/ MATSUSHITA; OC_FARNELL: unknown; OC_NEWARK: 13P9230; OC_NEWARK: 13P9231; OC_NEWARK: 13P9232; OC_NEWARK: 10C9995; OC_NEWARK: 13P9234; OC_NEWARK: 11C0002; OC_NEWARK: 11C0005; OC_NEWARK: unknown
footprint TQ-SS
part A pins: 1 +, 10 -
part B pins: 2 O, 3 P, 4 S
part C pins: 7 S, 8 P, 9 O

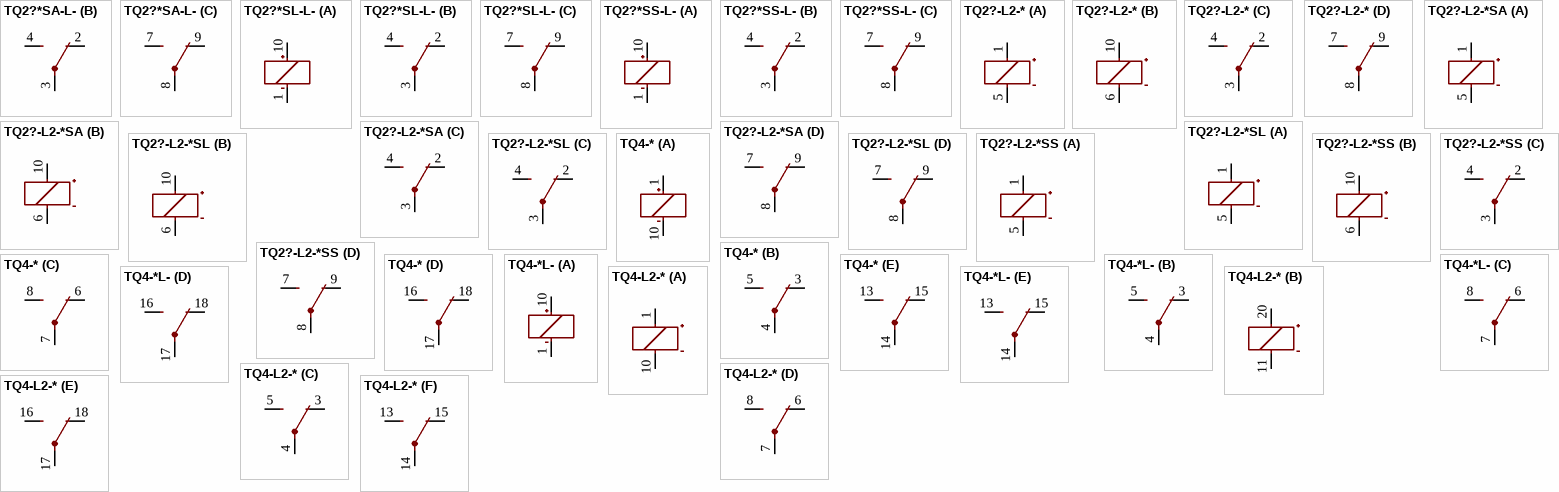
[diagram p25: symbols TQ2?*SA-L- to TQ4-L2-*]

## TQ2?*SA-L-
designator K?, comment LOW PROFILE 2 FORM C RELAY NAiS   Source: http://www.mew-europe.com/..  en_ds_61020_0001.pdf Source: http://www.mew-europe.com/..  en_ds_61020_0004.pdf  (value not drawn)
MPN: TQ2SA-L-12V; MPN: TQ2SA-L-3V; MPN: TQ2SA-L-4.5V; MPN: TQ2SA-L-5V; OC_FARNELL: unknown; OC_NEWARK: unknown; OC_NEWARK: 15P9777; OC_NEWARK: 15P9778; OC_NEWARK: 15P9779; OC_NEWARK: 15P9780
footprint TQ-SA
part A pins: 1 -, 10 +
part B pins: 2 O, 3 P, 4 S
part C pins: 7 S, 8 P, 9 O

## TQ2?*SL-L-
designator K?, comment LOW PROFILE 2 FORM C RELAY NAiS   Source: http://www.mew-europe.com/..  en_ds_61020_0001.pdf Source: http://www.mew-europe.com/..  en_ds_61020_0004.pdf  (value not drawn)
MPN: TQ2SL-L-24V; MPN: TQ2SL-L-3V; MF: AROMAT/ MATSUSHITA; OC_FARNELL: unknown; OC_NEWARK: unknown; OC_NEWARK: 10C9870; OC_NEWARK: 15P9793
footprint TQ-SL
part A pins: 1 -, 10 +
part B pins: 2 O, 3 P, 4 S
part C pins: 7 S, 8 P, 9 O

## TQ2?*SS-L-
designator K?, comment LOW PROFILE 2 FORM C RELAY NAiS   Source: http://www.mew-europe.com/..  en_ds_61020_0001.pdf Source: http://www.mew-europe.com/..  en_ds_61020_0004.pdf  (value not drawn)
MPN: TQ2SS-L-4.5V; MPN: TQ2SS-L-5V; MF: AROMAT/ MATSUSHITA; OC_FARNELL: unknown; OC_NEWARK: unknown; OC_NEWARK: 10C9950; OC_NEWARK: 15P9797
footprint TQ-SS
part A pins: 1 -, 10 +
part B pins: 2 O, 3 P, 4 S
part C pins: 7 S, 8 P, 9 O

## TQ2?-L2-*
designator K?, comment LOW PROFILE 2 FORM C RELAY NAiS   2 coil latching Source: http://www.mew-europe.com/..  en_ds_61020_0001.pdf Source: http://www.mew-europe.com/..  en_ds_61020_0002.pdf  (value not drawn)
MPN: TQ2-L2-9V; MF: AROMAT/ MATSUSHITA; OC_FARNELL: 1217662; OC_NEWARK: 64K3196
footprint TQ2
part A pins: 1 +, 5 -
part B pins: 6 -, 10 +
part C pins: 2 O, 3 P, 4 S
part D pins: 7 S, 8 P, 9 O

## TQ2?-L2-*SA
designator K?, comment LOW PROFILE 2 FORM C RELAY NAiS   2 coil latching Source: http://www.mew-europe.com/..  en_ds_61020_0001.pdf Source: http://www.mew-europe.com/..  en_ds_61020_0002.pdf  (value not drawn)
MPN: TQ2SA-L2-12V; MPN: TQ2SA-L2-24V; MPN: TQ2SA-L2-3V; MPN: TQ2SA-L2-4.5V; MPN: TQ2SA-L2-5V; MF: FARNELL; MF: AROMAT/ MATSUSHITA; OC_FARNELL: unknown; OC_NEWARK: unknown; OC_FARNELL: 1124058; OC_NEWARK: 02M6304; OC_FARNELL: 625784; OC_NEWARK: 15J0011; OC_NEWARK: 15P9786; OC_NEWARK: 15P9788; OC_FARNELL: 625760; OC_NEWARK: 64K3202
footprint TQ-SA
part A pins: 1 +, 5 -
part B pins: 6 -, 10 +
part C pins: 2 O, 3 P, 4 S
part D pins: 7 S, 8 P, 9 O

## TQ2?-L2-*SL
designator K?, comment LOW PROFILE 2 FORM C RELAY NAiS   2 coil latching Source: http://www.mew-europe.com/..  en_ds_61020_0001.pdf Source: http://www.mew-europe.com/..  en_ds_61020_0002.pdf  (value not drawn)
MPN: TQ2SL-L2-24V; MPN: TQ2SL-L2-3V-Z; MPN: TQ2SL-L2-4.5V; MPN: TQ2SL-L2-5V; MF: AROMAT/ MATSUSHITA; OC_FARNELL: unknown; OC_NEWARK: unknown; OC_NEWARK: 15P9794; OC_NEWARK: 10C9899; OC_NEWARK: 15P9795; OC_NEWARK: 15P9796
footprint TQ-SL
part A pins: 1 +, 5 -
part B pins: 6 -, 10 +
part C pins: 2 O, 3 P, 4 S
part D pins: 7 S, 8 P, 9 O

## TQ2?-L2-*SS
designator K?, comment LOW PROFILE 2 FORM C RELAY NAiS   2 coil latching Source: http://www.mew-europe.com/..  en_ds_61020_0001.pdf Source: http://www.mew-europe.com/..  en_ds_61020_0002.pdf  (value not drawn)
MPN: TQ2SS-L2-12V; MPN: TQ2SS-L2-24V; MPN: TQ2SS-L2-3V; MPN: TQ2SS-L2-4.5V-Z; MPN: TQ2SS-L2-5V; MF: AROMAT/ MATSUSHITA; OC_FARNELL: unknown; OC_NEWARK: unknown; OC_NEWARK: 15P9800; OC_NEWARK: 15P9801; OC_NEWARK: 15P9802; OC_NEWARK: 15P9803; OC_NEWARK: 64K3206
footprint TQ-SS
part A pins: 1 +, 5 -
part B pins: 6 -, 10 +
part C pins: 2 O, 3 P, 4 S
part D pins: 7 S, 8 P, 9 O

## TQ4-*
designator K?, comment LOW PROFILE 2 FORM C RELAY NAiS   Source: http://www.mew-europe.com/..  en_ds_61020_0001.pdf  (value not drawn)
MPN: TQ4-24V; MPN: TQ4-3V; MPN: TQ4-4.5V; MPN: TQ4-5V; MF: AROMAT/ MATSUSHITA; OC_FARNELL: unknown; OC_NEWARK: unknown; OC_FARNELL: 1608334; OC_NEWARK: 64K3210; OC_NEWARK: 13P9240; OC_NEWARK: 13P9241; OC_FARNELL: 1448362; OC_NEWARK: 67K1293
footprint TQ4
part A pins: 1 +, 10 -
part B pins: 3 O, 4 P, 5 S
part C pins: 6 O, 7 P, 8 S
part D pins: 16 S, 17 P, 18 O
part E pins: 13 S, 14 P, 15 O

## TQ4-*L-
designator K?, comment LOW PROFILE 2 FORM C RELAY NAiS   Source: http://www.mew-europe.com/..  en_ds_61020_0001.pdf  (value not drawn)
OC_FARNELL: unknown; OC_NEWARK: unknown; OC_FARNELL: 1448362
footprint TQ4
part A pins: 1 -, 10 +
part B pins: 3 O, 4 P, 5 S
part C pins: 6 O, 7 P, 8 S
part D pins: 16 S, 17 P, 18 O
part E pins: 13 S, 14 P, 15 O

## TQ4-L2-*
designator K?, comment LOW PROFILE 2 FORM C RELAY NAiS   2 coil latching Source: http://www.mew-europe.com/..  en_ds_61020_0001.pdf  (value not drawn)
MPN: TQ4-L2-12V; MPN: TQ4-L2-24V; MPN: TQ4-L2-5V; MF: AROMAT/ MATSUSHITA; OC_FARNELL: unknown; OC_NEWARK: 90F5822; OC_NEWARK: 15P9807; OC_NEWARK: unknown; OC_NEWARK: 64K3208
footprint TQ4
part A pins: 1 +, 10 -
part B pins: 11 -, 20 +
part C pins: 3 O, 4 P, 5 S
part D pins: 6 O, 7 P, 8 S
part E pins: 16 S, 17 P, 18 O
part F pins: 13 S, 14 P, 15 O

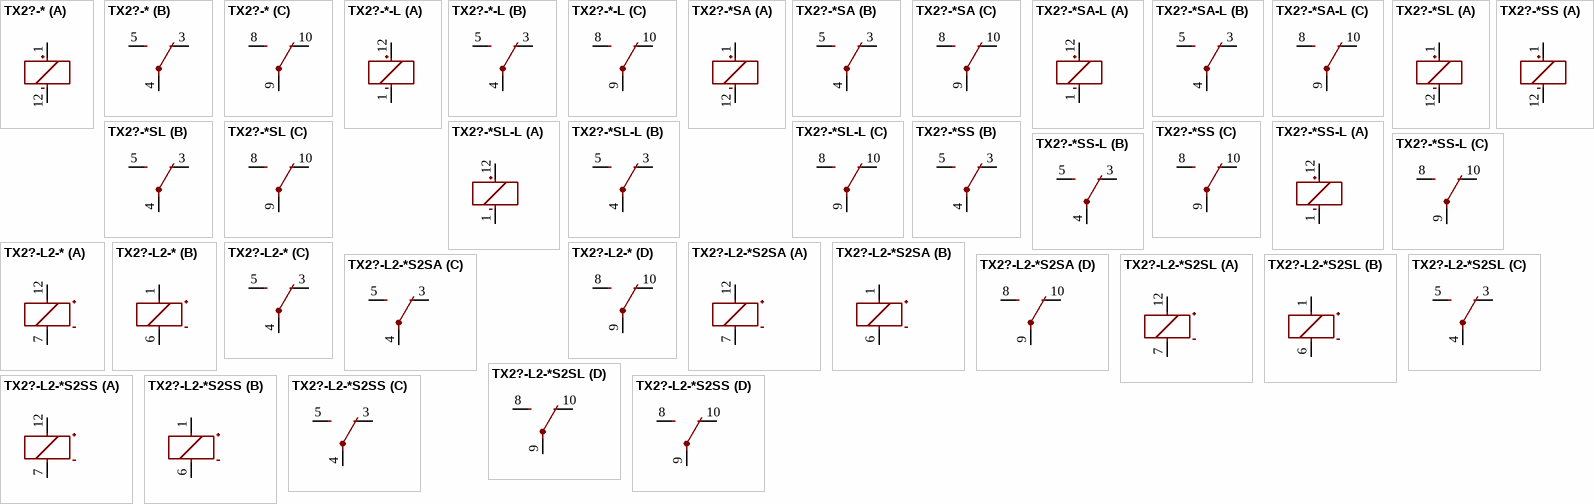
[diagram p26: symbols TX2?-* to TX2?-L2-*S2SS]

## TX2?-*
designator K?, comment 2 AMP. HIGH CAPACITY RELAY NAiS   WITH HIGH SURGE VOLTAGE & HIGH BREAKDOWN VOLTAGE Source: http://www.mew-europe.com/..  en_ds_61022_0001.pdf  (value not drawn)
MPN: TX2-1.5V; MPN: TX2-12V; MPN: TX2-24V; MPN: TX2-3V; MPN: TX2-4.5V; MPN: TX2-5V; MPN: TX2-6V; MPN: TX2-9V; MF: AROMAT/ MATSUSHITA; OC_FARNELL: unknown; OC_NEWARK: 13P9570; OC_FARNELL: 1200952; OC_NEWARK: 67K1295; OC_FARNELL: 1124059; OC_NEWARK: 64K3215; OC_NEWARK: 13P9573; OC_FARNELL: 1200950; OC_NEWARK: 64K3216; OC_NEWARK: 67K1296; OC_NEWARK: 11C0387; OC_NEWARK: 11C0388
footprint TX2
part A pins: 1 +, 12 -
part B pins: 3 O, 4 P, 5 S
part C pins: 8 S, 9 P, 10 O

## TX2?-*-L
designator K?, comment 2 AMP. HIGH CAPACITY RELAY NAiS   WITH HIGH SURGE VOLTAGE & HIGH BREAKDOWN VOLTAGE Source: http://www.mew-europe.com/..  en_ds_61022_0001.pdf  (value not drawn)
MPN: TX2-L-12V; MPN: TX2-L-24V-1; MPN: TX2-L-3V; MPN: TX2-L-4.5V; MPN: TX2-L-5V; MPN: TX2-L-9V; OC_FARNELL: unknown; OC_NEWARK: unknown; OC_NEWARK: 11C0367; OC_NEWARK: 12N3976; OC_NEWARK: 15P9975; OC_NEWARK: 15P9976; OC_NEWARK: 15P9977; OC_NEWARK: 15P9978
footprint TX2
part A pins: 1 -, 12 +
part B pins: 3 O, 4 P, 5 S
part C pins: 8 S, 9 P, 10 O

## TX2?-*SA
designator K?, comment 2 AMP. HIGH CAPACITY RELAY NAiS   WITH HIGH SURGE VOLTAGE & HIGH BREAKDOWN VOLTAGE Source: http://www.mew-europe.com/..  en_ds_61022_0001.pdf  (value not drawn)
MPN: TX2SA-12V; MPN: TX2SA-24V; MPN: TX2SA-3V; MPN: TX2SA-4.5V; MPN: TX2SA-5V; MPN: TX2SA-6V-X; MPN: TX2SA-9V; MF: AROMAT/ MATSUSHITA; OC_FARNELL: unknown; OC_NEWARK: unknown; OC_FARNELL: 910480; OC_NEWARK: 64K3217; OC_FARNELL: 1652603; OC_NEWARK: 64K3218; OC_NEWARK: 13P9584; OC_NEWARK: 92F1604; OC_FARNELL: 1200957; OC_NEWARK: 13P9589; OC_NEWARK: 13P9592; OC_NEWARK: 13P9593
footprint TX2SA
part A pins: 1 +, 12 -
part B pins: 3 O, 4 P, 5 S
part C pins: 8 S, 9 P, 10 O

## TX2?-*SA-L
designator K?, comment 2 AMP. HIGH CAPACITY RELAY NAiS   WITH HIGH SURGE VOLTAGE & HIGH BREAKDOWN VOLTAGE Source: http://www.mew-europe.com/..  en_ds_61022_0001.pdf  (value not drawn)
OC_FARNELL: unknown; OC_NEWARK: unknown
footprint TX2SA
part A pins: 1 -, 12 +
part B pins: 3 O, 4 P, 5 S
part C pins: 8 S, 9 P, 10 O

## TX2?-*SL
designator K?, comment 2 AMP. HIGH CAPACITY RELAY NAiS   WITH HIGH SURGE VOLTAGE & HIGH BREAKDOWN VOLTAGE Source: http://www.mew-europe.com/..  en_ds_61022_0001.pdf  (value not drawn)
MPN: TX2SL-12V; MPN: TX2SL-24V; MPN: TX2SL-3V; MPN: TX2SL-4.5V; MPN: TX2SL-48V; MPN: TX2SL-5V; MPN: TX2SL-9V-1; MF: AROMAT/ MATSUSHITA; OC_FARNELL: unknown; OC_NEWARK: unknown; OC_NEWARK: 11C0519; OC_NEWARK: 16P9442; OC_NEWARK: 13P9598; OC_NEWARK: 13P9600; OC_NEWARK: 13P9602; OC_NEWARK: 13P9603; OC_NEWARK: 11N6123
footprint TX2SL
part A pins: 1 +, 12 -
part B pins: 3 O, 4 P, 5 S
part C pins: 8 S, 9 P, 10 O

## TX2?-*SL-L
designator K?, comment 2 AMP. HIGH CAPACITY RELAY NAiS   WITH HIGH SURGE VOLTAGE & HIGH BREAKDOWN VOLTAGE Source: http://www.mew-europe.com/..  en_ds_61022_0001.pdf  (value not drawn)
MPN: TX2SL-L-24V-1; MPN: TX2SL-L-3V; MF: AROMAT/ MATSUSHITA; OC_FARNELL: unknown; OC_NEWARK: unknown; OC_NEWARK: 12N3990; OC_NEWARK: 11C0477
footprint TX2SL
part A pins: 1 -, 12 +
part B pins: 3 O, 4 P, 5 S
part C pins: 8 S, 9 P, 10 O

## TX2?-*SS
designator K?, comment 2 AMP. HIGH CAPACITY RELAY NAiS   WITH HIGH SURGE VOLTAGE & HIGH BREAKDOWN VOLTAGE Source: http://www.mew-europe.com/..  en_ds_61022_0001.pdf  (value not drawn)
MPN: TX2SS-24V; MPN: TX2SS-3V-Z; MPN: TX2SS-4.5V; MPN: TX2SS-48V; MPN: TX2SS-5V; OC_FARNELL: unknown; OC_NEWARK: unknown; OC_NEWARK: 13P9605; OC_NEWARK: 13P9606; OC_NEWARK: 13P9607; OC_NEWARK: 13P9609; OC_NEWARK: 13P9610
footprint TX2SS
part A pins: 1 +, 12 -
part B pins: 3 O, 4 P, 5 S
part C pins: 8 S, 9 P, 10 O

## TX2?-*SS-L
designator K?, comment 2 AMP. HIGH CAPACITY RELAY NAiS   WITH HIGH SURGE VOLTAGE & HIGH BREAKDOWN VOLTAGE Source: http://www.mew-europe.com/..  en_ds_61022_0001.pdf  (value not drawn)
MPN: TX2SS-L-12V-Z; MPN: TX2SS-L-3V-1; MF: AROMAT/ MATSUSHITA; OC_FARNELL: unknown; OC_NEWARK: unknown; OC_NEWARK: 11C0549; OC_NEWARK: 12N3991
footprint TX2SS
part A pins: 1 -, 12 +
part B pins: 3 O, 4 P, 5 S
part C pins: 8 S, 9 P, 10 O

## TX2?-L2-*
designator K?, comment TX Relay 2 coil latching NAiS   2 AMP. HIGH CAPACITY RELAY WITH HIGH SURGE VOLTAGE & HIGH BREAKDOWN VOLTAGE Source: http://www.mew-europe.com/..  en_ds_61022_0001.pdf TX-S SMALL POLARIZED WITH HIGH SENSITIVITY 50mW Source: http://www.mew-europe.com/..  en_ds_61022_0022.pdf  (value not drawn)
MPN: TX2-L2-12V; MPN: TX2-L2-24V; MPN: TX2-L2-3V-1; MPN: TX2-L2-4.5V; MPN: TX2-L2-5V; MPN: TX2-L2-9V; MF: AROMAT/ MATSUSHITA; OC_FARNELL: unknown; OC_NEWARK: unknown; OC_FARNELL: 1124060; OC_NEWARK: 64K3213; OC_FARNELL: 1124061; OC_NEWARK: 31M0467; OC_NEWARK: 12N3980; OC_NEWARK: 15P9981; OC_FARNELL: 625826; OC_NEWARK: 15P9982; OC_NEWARK: 15P9984
footprint TX2-L2
part A pins: 7 -, 12 +
part B pins: 1 +, 6 -
part C pins: 3 O, 4 P, 5 S
part D pins: 8 S, 9 P, 10 O

## TX2?-L2-*S2SA
designator K?, comment TX Relay 2 coil latching NAiS   2 AMP. HIGH CAPACITY RELAY WITH HIGH SURGE VOLTAGE & HIGH BREAKDOWN VOLTAGE Source: http://www.mew-europe.com/..  en_ds_61022_0001.pdf TX-S SMALL POLARIZED WITH HIGH SENSITIVITY 50mW Source: http://www.mew-europe.com/..  en_ds_61022_0022.pdf  (value not drawn)
OC_FARNELL: unknown; OC_NEWARK: unknown
footprint TX2SA-L2
part A pins: 7 -, 12 +
part B pins: 1 +, 6 -
part C pins: 3 O, 4 P, 5 S
part D pins: 8 S, 9 P, 10 O

## TX2?-L2-*S2SL
designator K?, comment TX Relay 2 coil latching NAiS   2 AMP. HIGH CAPACITY RELAY WITH HIGH SURGE VOLTAGE & HIGH BREAKDOWN VOLTAGE Source: http://www.mew-europe.com/..  en_ds_61022_0001.pdf TX-S SMALL POLARIZED WITH HIGH SENSITIVITY 50mW Source: http://www.mew-europe.com/..  en_ds_61022_0022.pdf  (value not drawn)
OC_FARNELL: unknown; OC_NEWARK: unknown
footprint TX2SL-L2
part A pins: 7 -, 12 +
part B pins: 1 +, 6 -
part C pins: 3 O, 4 P, 5 S
part D pins: 8 S, 9 P, 10 O

## TX2?-L2-*S2SS
designator K?, comment TX Relay 2 coil latching NAiS   2 AMP. HIGH CAPACITY RELAY WITH HIGH SURGE VOLTAGE & HIGH BREAKDOWN VOLTAGE Source: http://www.mew-europe.com/..  en_ds_61022_0001.pdf TX-S SMALL POLARIZED WITH HIGH SENSITIVITY 50mW Source: http://www.mew-europe.com/..  en_ds_61022_0022.pdf  (value not drawn)
OC_FARNELL: unknown; OC_NEWARK: unknown
footprint TX2SS-L2
part A pins: 7 -, 12 +
part B pins: 1 +, 6 -
part C pins: 3 O, 4 P, 5 S
part D pins: 8 S, 9 P, 10 O

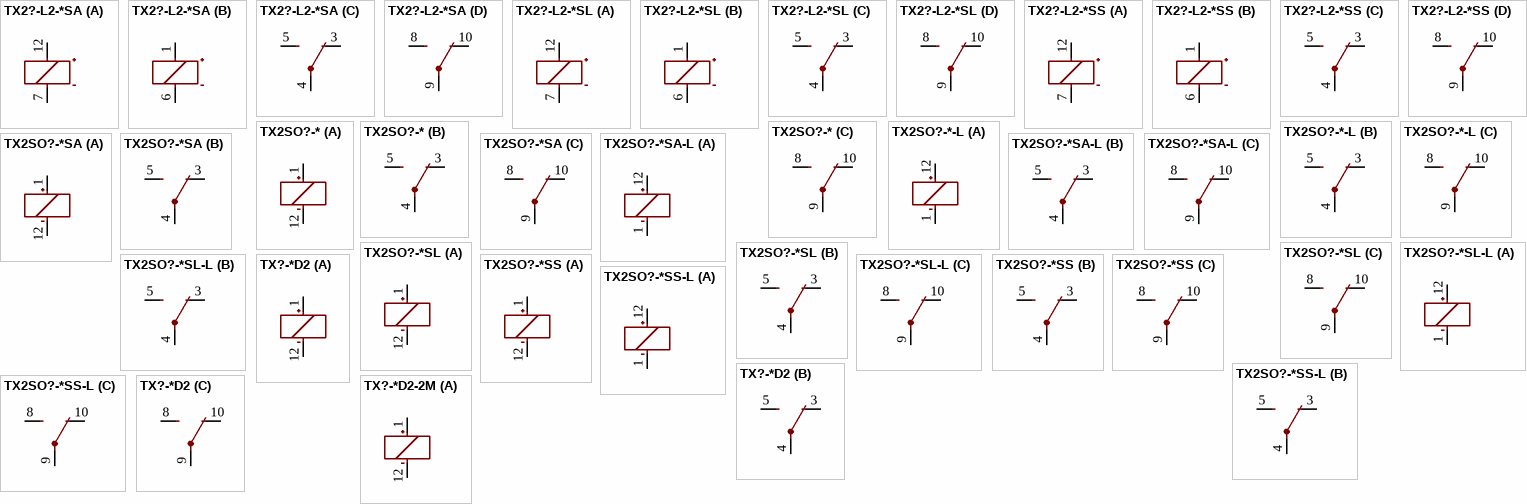
[diagram p27: symbols TX2?-L2-*SA to TX?-*D2-2M]

## TX2?-L2-*SA
designator K?, comment TX Relay 2 coil latching NAiS   2 AMP. HIGH CAPACITY RELAY WITH HIGH SURGE VOLTAGE & HIGH BREAKDOWN VOLTAGE Source: http://www.mew-europe.com/..  en_ds_61022_0001.pdf TX-S SMALL POLARIZED WITH HIGH SENSITIVITY 50mW Source: http://www.mew-europe.com/..  en_ds_61022_0022.pdf  (value not drawn)
MPN: TX2SA-L2-12V; MPN: TX2SA-L2-24V-1; MPN: TX2SA-L2-3V; MPN: TX2SA-L2-4.5V; MPN: TX2SA-L2-5V; MPN: TX2SA-L2-6V-X; MF: AROMAT/ MATSUSHITA; OC_FARNELL: unknown; OC_NEWARK: unknown; OC_NEWARK: 92F1610; OC_NEWARK: 12N3986; OC_NEWARK: 15P9991; OC_NEWARK: 15P9993; OC_NEWARK: 15P9995; OC_NEWARK: 13P9578
footprint TX2SA-L2
part A pins: 7 -, 12 +
part B pins: 1 +, 6 -
part C pins: 3 O, 4 P, 5 S
part D pins: 8 S, 9 P, 10 O

## TX2?-L2-*SL
designator K?, comment TX Relay 2 coil latching NAiS   2 AMP. HIGH CAPACITY RELAY WITH HIGH SURGE VOLTAGE & HIGH BREAKDOWN VOLTAGE Source: http://www.mew-europe.com/..  en_ds_61022_0001.pdf TX-S SMALL POLARIZED WITH HIGH SENSITIVITY 50mW Source: http://www.mew-europe.com/..  en_ds_61022_0022.pdf  (value not drawn)
MPN: TX2SL-L2-4.5V; MPN: TX2SL-L2-5V; MPN: TX2SL-L2-9V-Z; OC_FARNELL: unknown; OC_NEWARK: unknown; OC_NEWARK: 15P9998; OC_NEWARK: 16P0001; OC_NEWARK: 16P0002
footprint TX2SL-L2
part A pins: 7 -, 12 +
part B pins: 1 +, 6 -
part C pins: 3 O, 4 P, 5 S
part D pins: 8 S, 9 P, 10 O

## TX2?-L2-*SS
designator K?, comment TX Relay 2 coil latching NAiS   2 AMP. HIGH CAPACITY RELAY WITH HIGH SURGE VOLTAGE & HIGH BREAKDOWN VOLTAGE Source: http://www.mew-europe.com/..  en_ds_61022_0001.pdf TX-S SMALL POLARIZED WITH HIGH SENSITIVITY 50mW Source: http://www.mew-europe.com/..  en_ds_61022_0022.pdf  (value not drawn)
MPN: TX2SS-L2-9V; OC_FARNELL: unknown; OC_NEWARK: unknown; OC_NEWARK: 16P0003
footprint TX2SS-L2
part A pins: 7 -, 12 +
part B pins: 1 +, 6 -
part C pins: 3 O, 4 P, 5 S
part D pins: 8 S, 9 P, 10 O

## TX2SO?-*
designator K?, comment 2 AMP. HIGH CAPACITY RELAY NAiS   WITH HIGH SURGE VOLTAGE & HIGH BREAKDOWN VOLTAGE Source: http://www.mew-europe.com/..  en_ds_61022_0001.pdf  (value not drawn)
OC_FARNELL: unknown; OC_NEWARK: unknown
footprint TX2
part A pins: 1 +, 12 -
part B pins: 3 O, 4 P, 5 S
part C pins: 8 S, 9 P, 10 O

## TX2SO?-*-L
designator K?, comment 2 AMP. HIGH CAPACITY RELAY NAiS   WITH HIGH SURGE VOLTAGE & HIGH BREAKDOWN VOLTAGE Source: http://www.mew-europe.com/..  en_ds_61022_0001.pdf  (value not drawn)
OC_FARNELL: unknown; OC_NEWARK: unknown
footprint TX2
part A pins: 1 -, 12 +
part B pins: 3 O, 4 P, 5 S
part C pins: 8 S, 9 P, 10 O

## TX2SO?-*SA
designator K?, comment 2 AMP. HIGH CAPACITY RELAY NAiS   WITH HIGH SURGE VOLTAGE & HIGH BREAKDOWN VOLTAGE Source: http://www.mew-europe.com/..  en_ds_61022_0001.pdf  (value not drawn)
OC_FARNELL: unknown; OC_NEWARK: unknown
footprint TX2SA
part A pins: 1 +, 12 -
part B pins: 3 O, 4 P, 5 S
part C pins: 8 S, 9 P, 10 O

## TX2SO?-*SA-L
designator K?, comment 2 AMP. HIGH CAPACITY RELAY NAiS   WITH HIGH SURGE VOLTAGE & HIGH BREAKDOWN VOLTAGE Source: http://www.mew-europe.com/..  en_ds_61022_0001.pdf  (value not drawn)
OC_FARNELL: unknown; OC_NEWARK: unknown
footprint TX2SA
part A pins: 1 -, 12 +
part B pins: 3 O, 4 P, 5 S
part C pins: 8 S, 9 P, 10 O

## TX2SO?-*SL
designator K?, comment 2 AMP. HIGH CAPACITY RELAY NAiS   WITH HIGH SURGE VOLTAGE & HIGH BREAKDOWN VOLTAGE Source: http://www.mew-europe.com/..  en_ds_61022_0001.pdf  (value not drawn)
OC_FARNELL: unknown; OC_NEWARK: unknown
footprint TX2SL
part A pins: 1 +, 12 -
part B pins: 3 O, 4 P, 5 S
part C pins: 8 S, 9 P, 10 O

## TX2SO?-*SL-L
designator K?, comment 2 AMP. HIGH CAPACITY RELAY NAiS   WITH HIGH SURGE VOLTAGE & HIGH BREAKDOWN VOLTAGE Source: http://www.mew-europe.com/..  en_ds_61022_0001.pdf  (value not drawn)
OC_FARNELL: unknown; OC_NEWARK: unknown
footprint TX2SL
part A pins: 1 -, 12 +
part B pins: 3 O, 4 P, 5 S
part C pins: 8 S, 9 P, 10 O

## TX2SO?-*SS
designator K?, comment 2 AMP. HIGH CAPACITY RELAY NAiS   WITH HIGH SURGE VOLTAGE & HIGH BREAKDOWN VOLTAGE Source: http://www.mew-europe.com/..  en_ds_61022_0001.pdf  (value not drawn)
OC_FARNELL: unknown; OC_NEWARK: unknown
footprint TX2SS
part A pins: 1 +, 12 -
part B pins: 3 O, 4 P, 5 S
part C pins: 8 S, 9 P, 10 O

## TX2SO?-*SS-L
designator K?, comment 2 AMP. HIGH CAPACITY RELAY NAiS   WITH HIGH SURGE VOLTAGE & HIGH BREAKDOWN VOLTAGE Source: http://www.mew-europe.com/..  en_ds_61022_0001.pdf  (value not drawn)
OC_FARNELL: unknown; OC_NEWARK: unknown
footprint TX2SS
part A pins: 1 -, 12 +
part B pins: 3 O, 4 P, 5 S
part C pins: 8 S, 9 P, 10 O

## TX?-*D2
designator K?, comment TX Relais NAiS   TX-D RELAYS HIGH INSULATION Conforming to the supplementary insulation class of EN Standards (EN41003) Source: http://www.mew-europe.com/..  en_ds_61022_0007.pdf TX-S RELAYS SMALL POLARIZED RELAY WITH HIGH SENSITIVITY 50mW Source: http://www.mew-europe.com/..  en_ds_61022_0022.pdf  (value not drawn)
MPN: TXD2-12V; MPN: TXD2-24V; MPN: TXD2-3V; MPN: TXD2-5V; OC_FARNELL: unknown; OC_NEWARK: unknown; OC_NEWARK: 13P9522; OC_NEWARK: 13P9523; OC_NEWARK: 13P9524; OC_NEWARK: 13P9525
footprint TXD2
part A pins: 1 +, 12 -
part B pins: 3 O, 4 P, 5 S
part C pins: 8 S, 9 P, 10 O

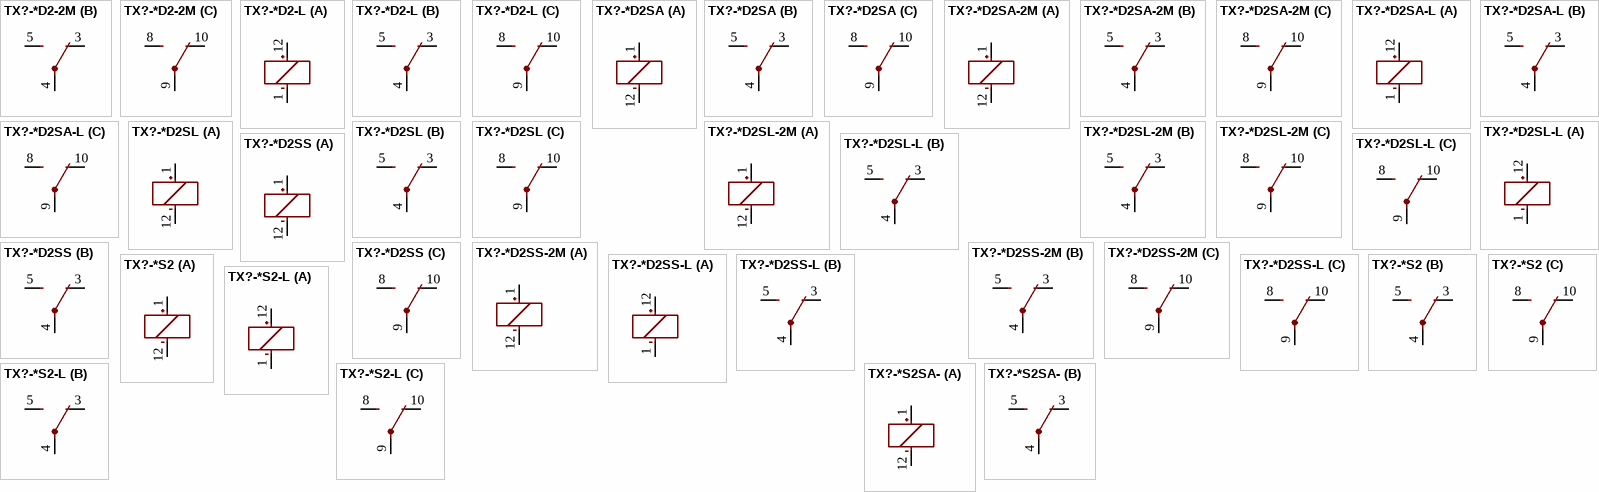
[diagram p28: symbols TX?-*D2-2M to TX?-*S2SA-]

## TX?-*D2-2M
designator K?, comment TX Relais NAiS   TX-D RELAYS HIGH INSULATION Conforming to the supplementary insulation class of EN Standards (EN41003) Source: http://www.mew-europe.com/..  en_ds_61022_0007.pdf TX-S RELAYS SMALL POLARIZED RELAY WITH HIGH SENSITIVITY 50mW Source: http://www.mew-europe.com/..  en_ds_61022_0022.pdf  (value not drawn)
OC_FARNELL: unknown; OC_NEWARK: unknown
footprint TXD2
part A pins: 1 +, 12 -
part B pins: 3 O, 4 P, 5 S
part C pins: 8 S, 9 P, 10 O

## TX?-*D2-L
designator K?, comment TX Relais NAiS   TX-D RELAYS HIGH INSULATION Conforming to the supplementary insulation class of EN Standards (EN41003) Source: http://www.mew-europe.com/..  en_ds_61022_0007.pdf TX-S RELAYS SMALL POLARIZED RELAY WITH HIGH SENSITIVITY 50mW Source: http://www.mew-europe.com/..  en_ds_61022_0022.pdf  (value not drawn)
MPN: TXD2-L-4.5V; MF: AROMAT/ MATSUSHITA; OC_FARNELL: unknown; OC_NEWARK: unknown; OC_NEWARK: 11C0103
footprint TXD2
part A pins: 1 -, 12 +
part B pins: 3 O, 4 P, 5 S
part C pins: 8 S, 9 P, 10 O

## TX?-*D2SA
designator K?, comment TX Relais NAiS   TX-D RELAYS HIGH INSULATION Conforming to the supplementary insulation class of EN Standards (EN41003) Source: http://www.mew-europe.com/..  en_ds_61022_0007.pdf TX-S RELAYS SMALL POLARIZED RELAY WITH HIGH SENSITIVITY 50mW Source: http://www.mew-europe.com/..  en_ds_61022_0022.pdf  (value not drawn)
MPN: TXD2SA-12V; MPN: TXD2SA-3V; MPN: TXD2SA-4.5V; MPN: TXD2SA-5V; MPN: TXD2SA-6V; MF: AROMAT/ MATSUSHITA; OC_FARNELL: unknown; OC_NEWARK: unknown; OC_NEWARK: 13P9526; OC_NEWARK: 11C0176; OC_NEWARK: 13P9531; OC_NEWARK: 13P9532; OC_NEWARK: 13P9534
footprint TXD2SA
part A pins: 1 +, 12 -
part B pins: 3 O, 4 P, 5 S
part C pins: 8 S, 9 P, 10 O

## TX?-*D2SA-2M
designator K?, comment TX Relais NAiS   TX-D RELAYS HIGH INSULATION Conforming to the supplementary insulation class of EN Standards (EN41003) Source: http://www.mew-europe.com/..  en_ds_61022_0007.pdf TX-S RELAYS SMALL POLARIZED RELAY WITH HIGH SENSITIVITY 50mW Source: http://www.mew-europe.com/..  en_ds_61022_0022.pdf  (value not drawn)
OC_FARNELL: unknown; OC_NEWARK: unknown
footprint TXD2SA
part A pins: 1 +, 12 -
part B pins: 3 O, 4 P, 5 S
part C pins: 8 S, 9 P, 10 O

## TX?-*D2SA-L
designator K?, comment TX Relais NAiS   TX-D RELAYS HIGH INSULATION Conforming to the supplementary insulation class of EN Standards (EN41003) Source: http://www.mew-europe.com/..  en_ds_61022_0007.pdf TX-S RELAYS SMALL POLARIZED RELAY WITH HIGH SENSITIVITY 50mW Source: http://www.mew-europe.com/..  en_ds_61022_0022.pdf  (value not drawn)
OC_FARNELL: unknown; OC_NEWARK: unknown
footprint TXD2SA
part A pins: 1 -, 12 +
part B pins: 3 O, 4 P, 5 S
part C pins: 8 S, 9 P, 10 O

## TX?-*D2SL
designator K?, comment TX Relais NAiS   TX-D RELAYS HIGH INSULATION Conforming to the supplementary insulation class of EN Standards (EN41003) Source: http://www.mew-europe.com/..  en_ds_61022_0007.pdf TX-S RELAYS SMALL POLARIZED RELAY WITH HIGH SENSITIVITY 50mW Source: http://www.mew-europe.com/..  en_ds_61022_0022.pdf  (value not drawn)
MPN: TXD2SL-3V; MPN: TXD2SL-4.5V-X; MF: AROMAT/ MATSUSHITA; OC_FARNELL: unknown; OC_NEWARK: unknown; OC_NEWARK: 11C0248; OC_NEWARK: 11N6056
footprint TXD2SL
part A pins: 1 +, 12 -
part B pins: 3 O, 4 P, 5 S
part C pins: 8 S, 9 P, 10 O

## TX?-*D2SL-2M
designator K?, comment TX Relais NAiS   TX-D RELAYS HIGH INSULATION Conforming to the supplementary insulation class of EN Standards (EN41003) Source: http://www.mew-europe.com/..  en_ds_61022_0007.pdf TX-S RELAYS SMALL POLARIZED RELAY WITH HIGH SENSITIVITY 50mW Source: http://www.mew-europe.com/..  en_ds_61022_0022.pdf  (value not drawn)
OC_FARNELL: unknown; OC_NEWARK: unknown
footprint TXD2SL
part A pins: 1 +, 12 -
part B pins: 3 O, 4 P, 5 S
part C pins: 8 S, 9 P, 10 O

## TX?-*D2SL-L
designator K?, comment TX Relais NAiS   TX-D RELAYS HIGH INSULATION Conforming to the supplementary insulation class of EN Standards (EN41003) Source: http://www.mew-europe.com/..  en_ds_61022_0007.pdf TX-S RELAYS SMALL POLARIZED RELAY WITH HIGH SENSITIVITY 50mW Source: http://www.mew-europe.com/..  en_ds_61022_0022.pdf  (value not drawn)
MPN: TXD2SL-L-12V; MPN: TXD2SL-L-24V; MPN: TXD2SL-L-5V; OC_FARNELL: unknown; OC_NEWARK: unknown; OC_NEWARK: 15P9956; OC_NEWARK: 15P9958; OC_NEWARK: 15P9960
footprint TXD2SL
part A pins: 1 -, 12 +
part B pins: 3 O, 4 P, 5 S
part C pins: 8 S, 9 P, 10 O

## TX?-*D2SS
designator K?, comment TX Relais NAiS   TX-D RELAYS HIGH INSULATION Conforming to the supplementary insulation class of EN Standards (EN41003) Source: http://www.mew-europe.com/..  en_ds_61022_0007.pdf TX-S RELAYS SMALL POLARIZED RELAY WITH HIGH SENSITIVITY 50mW Source: http://www.mew-europe.com/..  en_ds_61022_0022.pdf  (value not drawn)
MPN: TXD2SS-12V-Z; MPN: TXD2SS-24V-Z; MPN: TXD2SS-3V; MPN: TXD2SS-5V; MF: AROMAT/ MATSUSHITA; OC_FARNELL: unknown; OC_NEWARK: unknown; OC_NEWARK: 13P9535; OC_NEWARK: 13P9536; OC_NEWARK: 11C0320; OC_NEWARK: 11C0326
footprint TXD2SS
part A pins: 1 +, 12 -
part B pins: 3 O, 4 P, 5 S
part C pins: 8 S, 9 P, 10 O

## TX?-*D2SS-2M
designator K?, comment TX Relais NAiS   TX-D RELAYS HIGH INSULATION Conforming to the supplementary insulation class of EN Standards (EN41003) Source: http://www.mew-europe.com/..  en_ds_61022_0007.pdf TX-S RELAYS SMALL POLARIZED RELAY WITH HIGH SENSITIVITY 50mW Source: http://www.mew-europe.com/..  en_ds_61022_0022.pdf  (value not drawn)
MPN: TXD2SS-2M-12V; MF: AROMAT/ MATSUSHITA; OC_FARNELL: unknown; OC_NEWARK: unknown; OC_NEWARK: 11C0296
footprint TXD2SS
part A pins: 1 +, 12 -
part B pins: 3 O, 4 P, 5 S
part C pins: 8 S, 9 P, 10 O

## TX?-*D2SS-L
designator K?, comment TX Relais NAiS   TX-D RELAYS HIGH INSULATION Conforming to the supplementary insulation class of EN Standards (EN41003) Source: http://www.mew-europe.com/..  en_ds_61022_0007.pdf TX-S RELAYS SMALL POLARIZED RELAY WITH HIGH SENSITIVITY 50mW Source: http://www.mew-europe.com/..  en_ds_61022_0022.pdf  (value not drawn)
OC_FARNELL: unknown; OC_NEWARK: unknown
footprint TXD2SS
part A pins: 1 -, 12 +
part B pins: 3 O, 4 P, 5 S
part C pins: 8 S, 9 P, 10 O

## TX?-*S2
designator K?, comment TX Relais NAiS   TX-D RELAYS HIGH INSULATION Conforming to the supplementary insulation class of EN Standards (EN41003) Source: http://www.mew-europe.com/..  en_ds_61022_0007.pdf TX-S RELAYS SMALL POLARIZED RELAY WITH HIGH SENSITIVITY 50mW Source: http://www.mew-europe.com/..  en_ds_61022_0022.pdf  (value not drawn)
MPN: TXS2-12V; MPN: TXS2-24V; MPN: TXS2-3V; MPN: TXS2-4.5V; MPN: TXS2-6V; MPN: TXS2-9V; OC_FARNELL: unknown; OC_NEWARK: unknown; OC_NEWARK: 13P9539; OC_NEWARK: 13P9540; OC_NEWARK: 13P9541; OC_FARNELL: 1608335; OC_NEWARK: 13P9542; OC_NEWARK: 13P9543; OC_NEWARK: 11N6058
footprint TXD2
part A pins: 1 +, 12 -
part B pins: 3 O, 4 P, 5 S
part C pins: 8 S, 9 P, 10 O

## TX?-*S2-L
designator K?, comment TX Relais NAiS   TX-D RELAYS HIGH INSULATION Conforming to the supplementary insulation class of EN Standards (EN41003) Source: http://www.mew-europe.com/..  en_ds_61022_0007.pdf TX-S RELAYS SMALL POLARIZED RELAY WITH HIGH SENSITIVITY 50mW Source: http://www.mew-europe.com/..  en_ds_61022_0022.pdf  (value not drawn)
MPN: TXS2-L-1.5V; MPN: TXS2-L-12V; MPN: TXS2-L-24V; MPN: TXS2-L-3V; MPN: TXS2-L-4.5V; MPN: TXS2-L-9V; OC_FARNELL: unknown; OC_NEWARK: 12N3844; OC_NEWARK: 12N3845; OC_NEWARK: 12N3846; OC_NEWARK: 15P9962; OC_NEWARK: 15P9963; OC_NEWARK: unknown; OC_NEWARK: 12N3848
footprint TXD2
part A pins: 1 -, 12 +
part B pins: 3 O, 4 P, 5 S
part C pins: 8 S, 9 P, 10 O

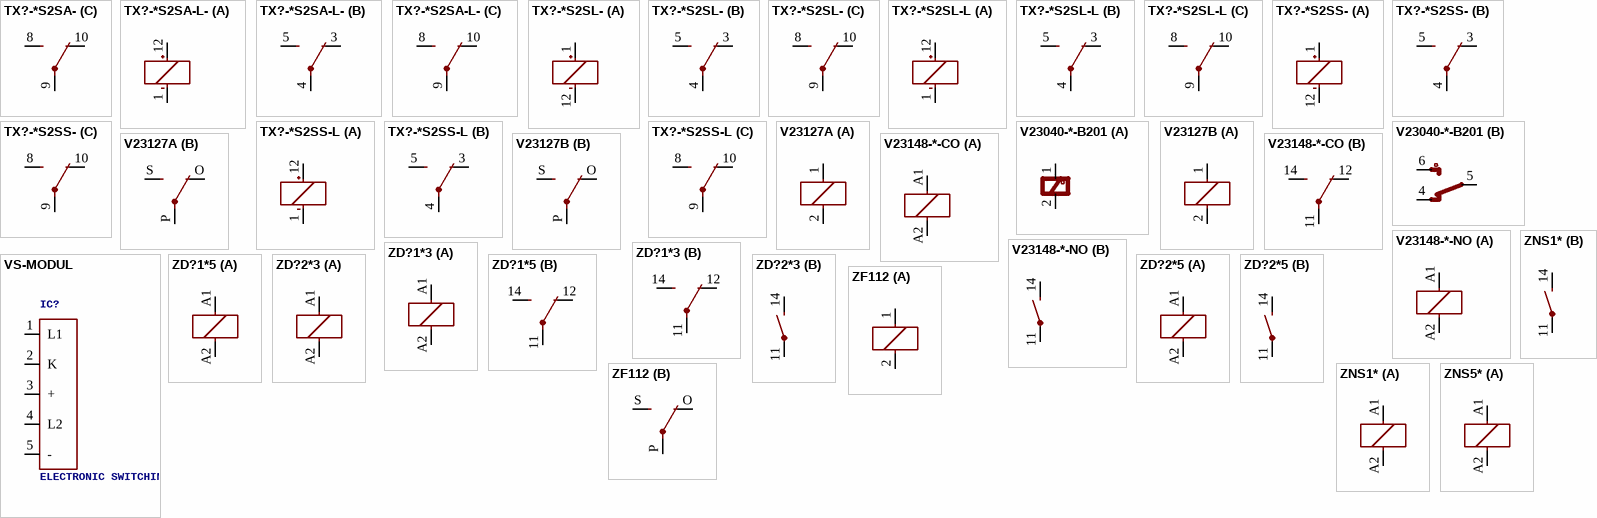
[diagram p29: symbols TX?-*S2SA- to ZNS5*]